# Altium integrated library ICs.IntLib: 1 symbol
Pins are listed as number, name and electrical type; pins without a type are passive.

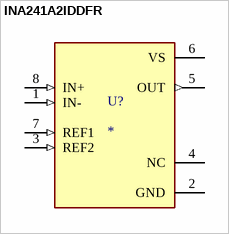
[diagram p0: symbol INA241A2IDDFR]

## INA241A2IDDFR
designator U?
MP: INA241A2IDDFR; Package: None; Price: None; Value: *; Availability: Unavailable
footprint SOT65P280X110-8N
pins: 1 IN- (in), 2 GND (power), 3 REF2 (in), 4 NC, 5 OUT (out), 6 VS (power), 7 REF1 (in), 8 IN+ (in)